# Altium footprint library PCBlib.PcbLib: 54 footprints (part 1 of 4)
Each footprint in its own frame and in the unit in brackets; x right, y up, seen from the top. Pads: shape width x height; smd on the part's side, far side on the other; paste and mask are expansions set on the pad; w line width, h text height; cw(c..) or ccw(c..) is an arc to the next point about the centre after c.
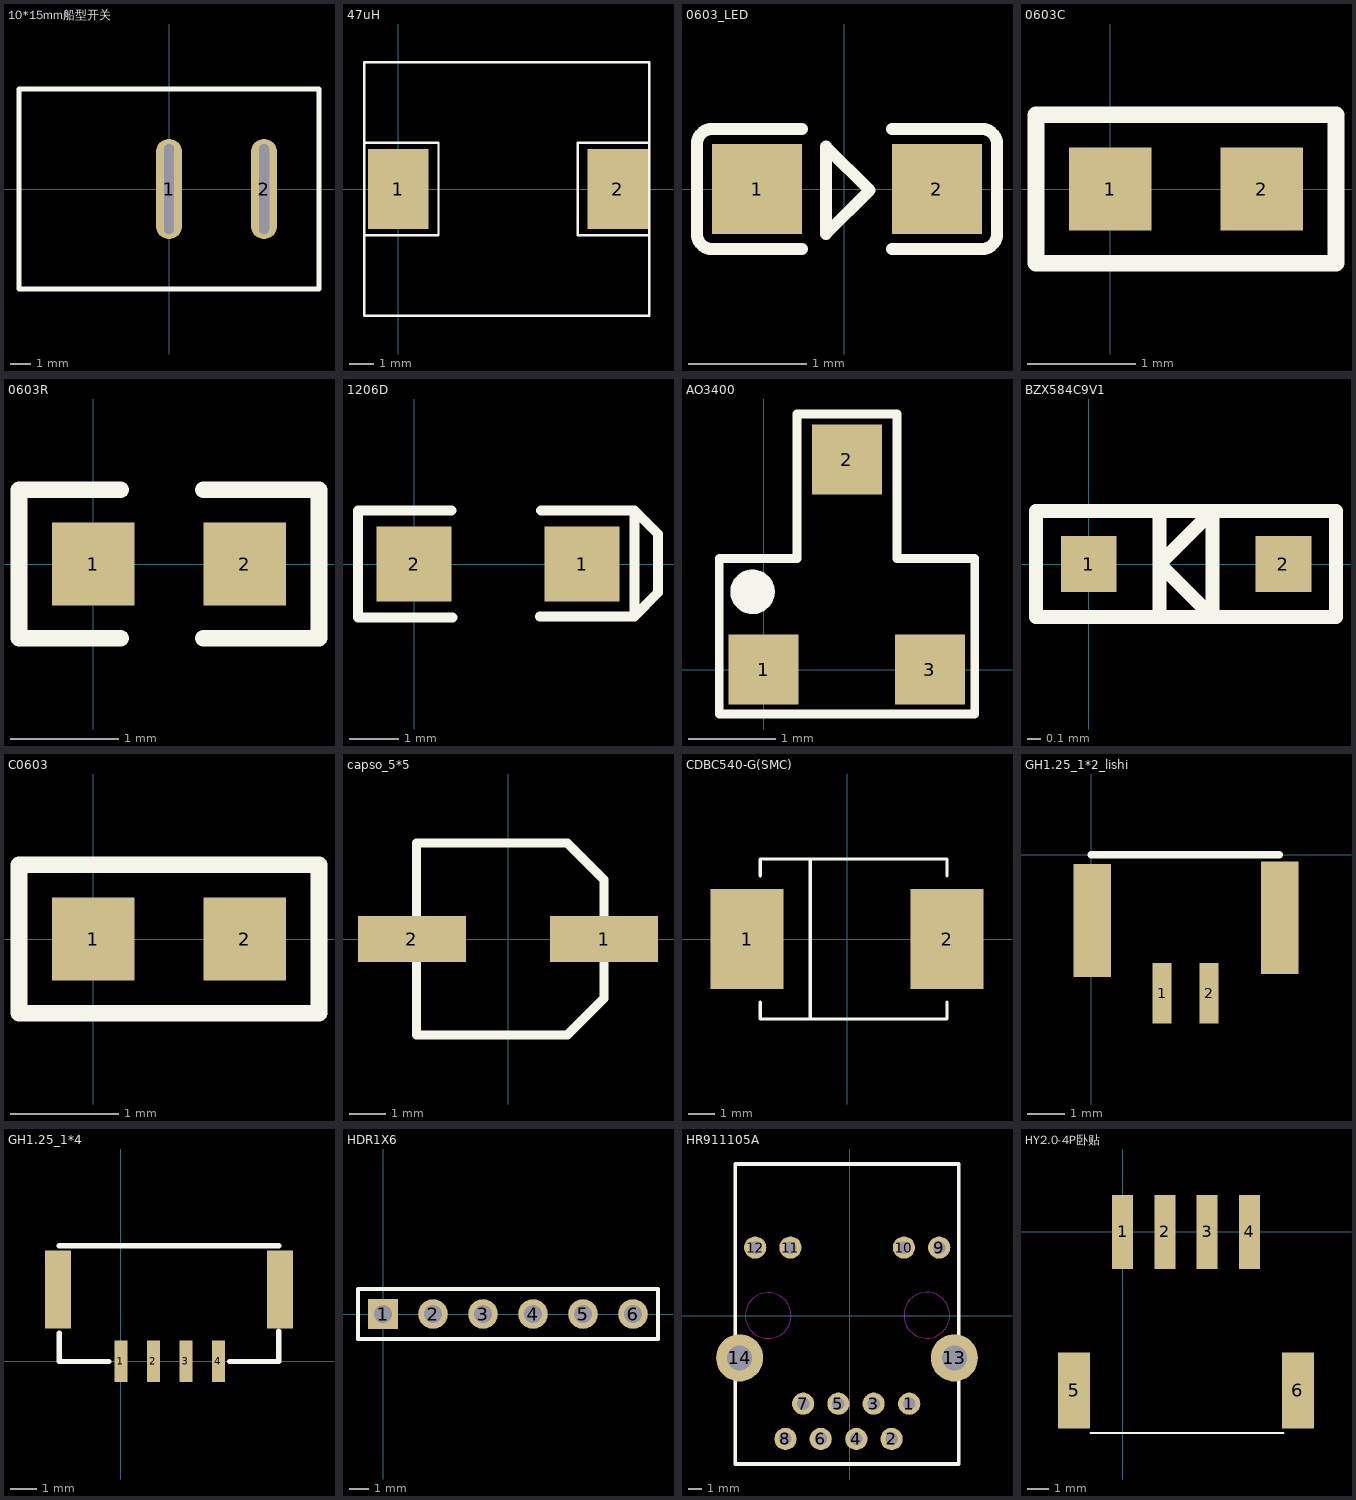
[diagram p0: the footprints below, top view; thin cyan lines are the x and y axes]

## 10*15mm船型开关 [mm]
pads (2):
  oval 1.3x5 hole 0.5 slot 4.5 at 90 deg: 1(0,0) 2(4.75,0)
Top Overlay:
  lines w0.254: -7.5,-5 7.5,-5 7.5,5 -7.5,5 -7.5,-5

## 47uH [mm]
pads (2):
  rect 2.5x3.3 smd: 1(0,0) 2(9,0)
Top Overlay:
  lines w0.1: -1.397,-1.905 1.651,-1.905 1.651,1.905 -1.397,1.905 ; 10.294,-1.905 7.366,-1.905 7.366,1.905 10.294,1.905 ; -1.397,-5.2 -1.397,5.2 10.294,5.2 10.294,-5.2 -1.397,-5.2

## 0603_LED [mil]
pads (2):
  rect 30x30 smd: 1(-29,0) 2(31,0)
Top Overlay:
  lines w3.94: -6.02,-15 -6.02,14.13 8.54,-0.43 -6.02,-15
  lines w4: -14,-20 -44,-20 cw(c-44,-15) -49,-15 -49,15 cw(c-44,15) -44,20 -14,20 ; 16,-20 46,-20 ccw(c46,-15) 51,-15 51,15 ccw(c46,15) 46,20 16,20
3D body "led0805  green.step": height 43.31, standoff -0.5, extent -40,-25 40,25

## 0603C [mil]
pads (2):
  rect 30x30 smd: 1(0,0) 2(55,0)
Top Overlay:
  lines w6: 81,27 -27,27 -27,-27 82,-27 82,27
3D body "User Library-0603 SMD Capacitor.step": height 12.49, standoff 0.6, extent -4.49,-15.75 58.51,15.75

## 0603R [mil]
pads (2):
  rect 30x30 smd: 1(0,0) 2(55,0)
Top Overlay:
  lines w6: 10,-27 -27,-27 -27,27 10,27 ; 40,-27 82,-27 82,27 40,27
3D body "User Library-RESC1608X05N.step": height 17.76, standoff 0, extent -3.51,-17.73 57.51,15.73

## 1206D [mil]
pads (2):
  rect 60x60 smd: 1(135,0) 2(0,0)
Top Overlay:
  lines w8: -45,-43 -45,43 30,43 ; -44,-43 31,-43 ; 101,-42 176,-42 ; 102,43 177,43 ; 177,43 177,-42 196,-23 196,24 177,43
3D body "User Library-res1206-1.step": height 21.65, standoff 0, extent 5.02,-32.49 131,30.5

## AO3400 [mm]
pads (3):
  rect 0.8x0.8 smd: 1(0,0) 2(0.95,2.4) 3(1.9,0)
Top Overlay:
  circle w0.254: c-0.127,0.889 r0.127
  lines w0.1: -0.508,-0.508 2.413,-0.508 2.413,0.635 2.413,1.27 1.524,1.27 1.524,2.921 0.381,2.921 0.381,1.27 -0.508,1.27 -0.508,-0.508

## BZX584C9V1 [mm]
pads (2):
  rect 0.4x0.4 smd: 1(0,0) 2(1.4,0)
Top Overlay:
  lines w0.1: 0.508,-0.381 0.508,0.381 ; -0.381,-0.381 -0.381,0.381 1.778,0.381 1.778,-0.381 -0.381,-0.381 ; 0.508,0 0.889,0.381 0.889,-0.381 0.508,0

## C0603 [mil]
pads (2):
  rect 30x30 smd: 1(0,0) 2(55,0)
Top Overlay:
  lines w6: 81,27 -27,27 -27,-27 82,-27 82,27
3D body "User Library-0603 SMD Capacitor.step": height 12.49, standoff 0.6, extent -4.49,-15.75 58.51,15.75

## capso_5*5 [mm]
pads (2):
  rect 3x1.274 smd: 1(2.667,0) 2(-2.667,0)
Top Overlay:
  lines w0.254: -2.54,-2.667 -2.54,2.667 1.651,2.667 2.667,1.651 2.667,-1.651 1.651,-2.667 -2.54,-2.667
3D body "User Library-ALU-C.STEP": height 5.41, standoff 0, extent -2.874,-2.565 3.026,2.735

## CDBC540-G(SMC) [mil] "Magnetic-Core Inductor with Winding Polarity Marking; 2 Leads"
pads (2):
  rect 110x150 smd: 1(-150,0) 2(150,0)
Top Overlay:
  lines w5: -130,-95 -130,-120 150,-120 150,-95 ; -130,95 -130,120 150,120 150,95 ; -55,-120 -55,120
Mechanical 1:
  lines w1: -130,-120 150,-120 ; -130,120 150,120

## GH1.25_1*2_lishi [mm]
pads (4):
  rect 0.5x1.6 smd: 1(1.88,-3.683) 2(3.13,-3.683)
  rect 1x3 smd: ""(0.025,-1.753) ""(5.004,-1.676)
Top Overlay:
  lines w0.2: 0,0 5,0

## GH1.25_1*4 [mm]
pads (6):
  rect 0.5x1.6 smd: 1(0,0) 2(1.25,0) 3(2.5,0) 4(3.75,0)
  rect 1x3 smd: ""(-2.413,2.769) ""(6.121,2.769)
Top Overlay:
  lines w0.2: -2.362,1.092 -2.362,0 -0.457,0 ; -2.362,4.445 6.071,4.445 ; 4.191,0 6.071,0 6.071,1.168

## HDR1X6 [mm] "Connector; Header; 6 Position"
pads (6):
  rect 1.5x1.5 hole 0.9: 1(0,0)
  round 1.5 hole 0.9: 2(2.54,0) 3(5.08,0) 4(7.62,0) 5(10.16,0) 6(12.7,0)
Top Overlay:
  lines w0.2: -1.27,-1.27 -1.27,1.27 13.97,1.27 13.97,-1.27 -1.27,-1.27
3D body "HEADER.STEP": height 7.58, standoff -2.94, extent 11.43,-1.27 13.97,1.27
3D body "HEADER.STEP": height 7.58, standoff -2.94, extent 8.89,-1.27 11.43,1.27
3D body "HEADER.STEP": height 7.58, standoff -2.94, extent 6.35,-1.27 8.89,1.27
3D body "HEADER.STEP": height 7.58, standoff -2.94, extent 3.81,-1.27 6.35,1.27
3D body "HEADER.STEP": height 7.58, standoff -2.94, extent 1.27,-1.27 3.81,1.27
3D body "HEADER.STEP": height 7.58, standoff -2.94, extent -1.27,-1.27 1.27,1.27

## HR911105A [mm]
pads (14):
  round 1.6 hole 0.9: 1(4.293,-6.325) 2(3.023,-8.865) 3(1.727,-6.325) 4(0.483,-8.865) 5(-0.813,-6.325) 6(-2.083,-8.865) 7(-3.353,-6.325) 8(-4.623,-8.865) 9(6.452,4.928) 10(3.912,4.928) 11(-4.267,4.928) 12(-6.807,4.928)
  round 3.4 hole 1.8: 13(7.544,-3.023) 14(-7.925,-3.023)
Top Overlay:
  lines w0.254: -8.255,-10.668 -8.255,10.947 7.874,10.947 7.874,-10.668 -8.255,-10.668
Keep-Out Layer:
  circle w0.051: c-5.866,0.025 r1.65
  circle w0.051: c5.564,0.051 r1.65
3D body "User Library-RMS-001L-08A0-GY.STEP": height 2.3, standoff -14.5, extent -8.255,-10.472 7.745,10.828

## HY2.0-4P卧贴 [mm]
pads (6):
  rect 1x3.5 smd: 1(0,0) 2(2,0) 3(4,0) 4(6,0)
  rect 1.5x3.6 smd: 5(-2.3,-7.5) 6(8.3,-7.5)
Top Overlay:
  lines w0.1: -1.524,-9.525 7.62,-9.525